# Altium footprint library PCB_Passive.PcbLib: 22 footprints (part 1 of 2)
Each footprint in its own frame and in the unit in brackets; x right, y up, seen from the top. Pads: shape width x height; smd on the part's side, far side on the other; paste and mask are expansions set on the pad; w line width, h text height; cw(c..) or ccw(c..) is an arc to the next point about the centre after c.
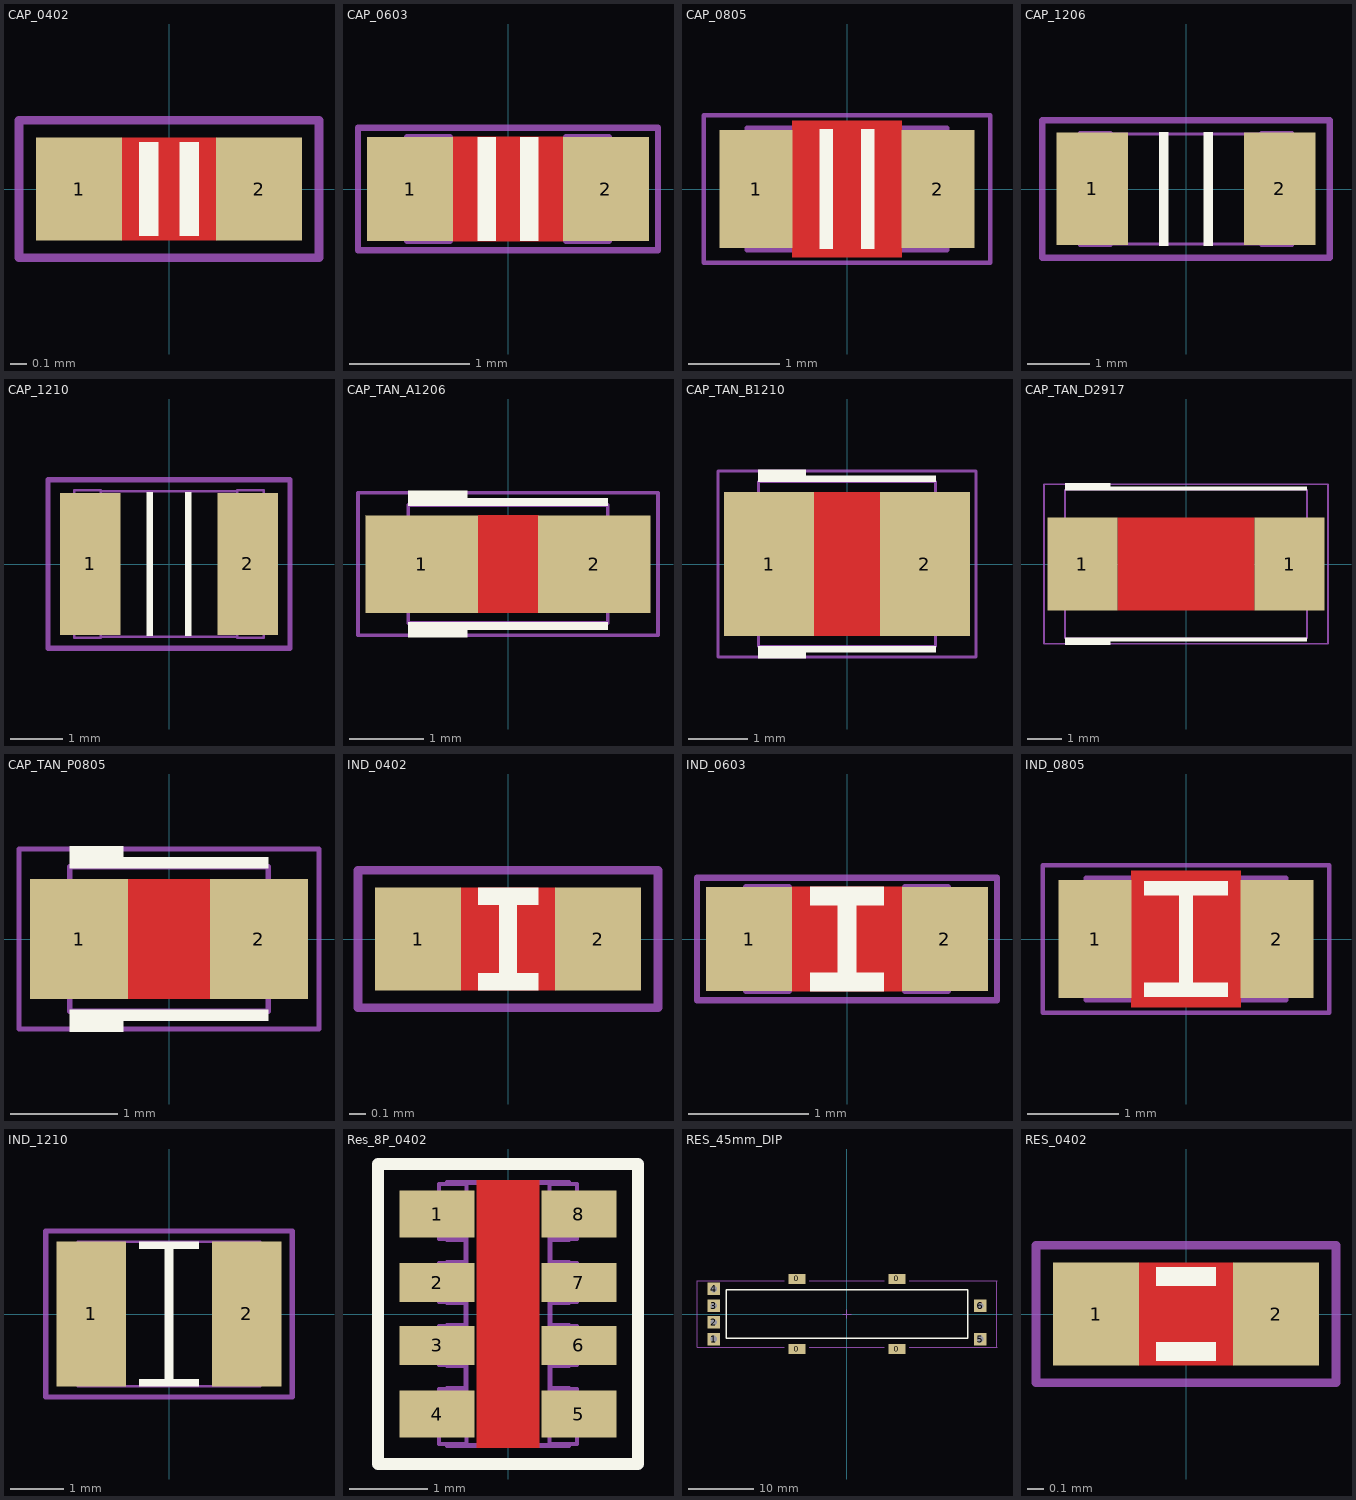
[diagram p0: the footprints below, top view; thin cyan lines are the x and y axes]

## CAP_0402 [mil]
height 21.65
pads (2):
  rect 20x24 smd: 1(-21,0) 2(21,0)
Top Layer:
  pour cut-out: -11,12 11,12 11,-12 -11,-12
Top Overlay:
  rectangle: 2.5,-11 7,11
  rectangle: -7,-11 -2.5,11
Mechanical 13:
  lines w1: -12.8,-10 12.8,-10 ; -12.8,10 12.8,10.03 ; -20.67,-10.83 -12.8,-10.83 -12.8,10.83 -20.67,10.83 -20.67,-10.83 ; 12.8,-10.83 12.8,10.83 20.67,10.83 20.67,-10.83 12.8,-10.83
Mechanical 14:
  lines w2: -35,-16 35,-16 35,16 -35,16 -35,-16
3D body: height 22.05, standoff 0, extent -19.68,-9.84 19.69,9.85

## CAP_0603 [mil]
height 31.5
pads (2):
  rect 28x34 smd: 1(-32,0) 2(32,0)
Top Layer:
  pour cut-out: -18,17 18,17 18,-17 -18,-17
Top Overlay:
  rectangle: -10,-17 -4,17
  rectangle: 4,-17 10,17
Mechanical 13:
  lines w1.97: -33,-17 -33,17 -19,17 -19,-17 -33,-17 ; 19.01,-17 33.01,-17 33.01,17 19.01,17 19.01,-17
  lines w2: -19,-15 19,-15 ; -18.99,15 19.01,15
Mechanical 14:
  lines w2: -49,-20 -49,20 49,20 49,-20 -49,-20
3D body: height 36.22, standoff 0, extent -31.49,-15.74 31.5,15.75

## CAP_0805 [mm]
height 1.2
pads (2):
  rect 0.8x1.3 smd: 1(-1,0) 2(1,0)
Top Layer:
  pour cut-out: -0.6,0.75 0.6,0.75 0.6,-0.75 -0.6,-0.75
Top Overlay:
  rectangle: 0.152,-0.66 0.305,0.66
  rectangle: -0.305,-0.66 -0.152,0.66
Mechanical 13:
  lines w0.05: 0.6,-0.674 -0.6,-0.674 ; -0.6,-0.675 -0.6,0.675 -1.1,0.675 -1.1,-0.675 -0.6,-0.675 ; -0.6,-0.674 0.6,-0.674 ; 0.6,-0.675 0.6,0.675 ; 0.6,-0.675 1.1,-0.675 1.1,0.675 0.6,0.675 ; 0.6,0.674 -0.6,0.674 0.6,0.674
Mechanical 14:
  lines w0.051: -1.575,-0.813 1.575,-0.813 1.575,0.813 -1.575,0.813 -1.575,-0.813
3D body: height 1.27, standoff 0, extent -1,-0.6 1,0.6

## CAP_1206 [mm]
height 1.6
pads (2):
  rect 1.15x1.8 smd: 1(-1.5,0) 2(1.5,0)
Top Overlay:
  rectangle: -0.432,-0.914 -0.279,0.914
  rectangle: 0.279,-0.914 0.432,0.914
Mechanical 13:
  lines w0.05: -1.2,-0.88 1.2,-0.88 ; -1.2,0.88 1.2,0.88 ; -1.7,-0.9 -1.2,-0.9 -1.2,0.9 -1.7,0.9 -1.7,-0.9 ; 1.2,-0.9 1.7,-0.9 1.7,0.9 1.2,0.9 1.2,-0.9
Mechanical 14:
  lines w0.1: -2.3,-1.1 -2.3,1.1 2.3,1.1 2.3,-1.1 -2.3,-1.1
3D body: height 1.52, standoff 0, extent -1.6,-0.8 1.6,0.8

## CAP_1210 [mm]
height 2.54
pads (2):
  rect 1.15x2.7 smd: 1(-1.5,0) 2(1.5,0)
Top Overlay:
  rectangle: -0.432,-1.372 -0.305,1.372
  rectangle: 0.305,-1.372 0.432,1.372
Mechanical 13:
  lines w0.05: -1.3,-1.38 1.3,-1.38 ; -1.3,1.38 1.3,1.38 ; -1.8,-1.4 -1.8,1.4 -1.3,1.4 -1.3,-1.4 -1.8,-1.4 ; 1.3,-1.4 1.8,-1.4 1.8,1.4 1.3,1.4 1.3,-1.4
Mechanical 14:
  lines w0.1: -2.3,-1.6 2.3,-1.6 2.3,1.6 -2.3,1.6 -2.3,-1.6
3D body: height 1.9, standoff 0, extent -1.6,-1.25 1.6,1.25

## CAP_TAN_A1206 [mil]
height 70.87
pads (2):
  rect 60x52 smd: 1(-46,0) 2(46,0)
Top Layer:
  pour cut-out: -16,26 16,26 16,-26 -16,-26
Top Overlay:
  region: 53.15,-35 -21.66,-35 -21.66,-39 -53.16,-39 -53.16,-31 53.15,-31
  region: 53.15,31 -53.16,31 -53.16,39 -21.66,39 -21.66,35 53.15,35
Mechanical 13:
  lines w2: -63,-23.63 -63,23.62 -21.66,23.62 -21.66,-23.63 -63,-23.63 ; -53.16,-31.5 53.15,-31.5 53.15,31.5 -53.16,31.5 -53.16,-31.5 ; 21.65,-23.62 21.65,23.62 62.99,23.62 62.99,-23.62 21.65,-23.62
Mechanical 14:
  lines w2: -80,-38 -80,38 80,38 80,-38 -80,-38
3D body: height 70.87, standoff 0, extent -62.99,-31.49 63,31.5

## CAP_TAN_B1210 [mil]
height 82.68
pads (2):
  rect 60x96 smd: 1(-52,0) 2(52,0)
Top Layer:
  pour cut-out: -22,48 22,48 22,-48 -22,-48
Top Overlay:
  region: 59.05,55 -59.06,55 -59.06,63 -27.55,63 -27.55,59 59.05,59
  region: 59.05,-59 -27.55,-59 -27.55,-63 -59.06,-63 -59.06,-55 59.05,-55
Mechanical 13:
  lines w2: -68.89,-43.3 -27.55,-43.3 -27.55,43.31 -68.89,43.31 -68.89,-43.3 ; -59.06,-55.11 -59.06,55.12 59.05,55.12 59.05,-55.11 -59.06,-55.11 ; 27.56,-43.31 27.56,43.31 68.9,43.31 68.9,-43.31 27.56,-43.31
Mechanical 14:
  lines w2: -86,-62 86,-62 86,62 -86,62 -86,-62
3D body: height 82.68, standoff 0, extent -68.89,-55.11 68.91,55.13

## CAP_TAN_D2917 [mil]
height 122.05
pads (2):
  rect 80x106 smd: 1(-118,0) 1(118,0)
Top Layer:
  pour cut-out: -78,53 78,53 78,-53 -78,-53
Top Overlay:
  region: 137.8,84 -137.8,84 -137.8,92 -86.61,92 -86.61,88 137.8,88
  region: 137.8,-88 -86.61,-88 -86.61,-92 -137.8,-92 -137.8,-84 137.8,-84
Mechanical 13:
  lines w2: -143.7,-47.24 -86.61,-47.24 -86.61,47.24 -143.7,47.24 -143.7,-47.24 ; -137.8,-84.65 -137.8,84.65 137.8,84.65 137.8,-84.65 -137.8,-84.65 ; 86.61,-47.24 86.61,47.24 143.7,47.24 143.7,-47.24 86.61,-47.24
Mechanical 14:
  lines w2: -162,-91 -162,91 162,91 162,-91 -162,-91
3D body: height 122.05, standoff 0, extent -149.6,-77.75 149.61,77.76

## CAP_TAN_P0805 [mil]
height 59.06
pads (2):
  rect 36x44 smd: 1(-33,0) 2(33,0)
Top Layer:
  pour cut-out: -15,22 15,22 15,-22 -15,-22
Top Overlay:
  region: 36.42,26 -36.42,26 -36.42,34 -16.73,34 -16.73,30 36.42,30
  region: 36.42,-30 -16.73,-30 -16.73,-34 -36.42,-34 -36.42,-26 36.42,-26
Mechanical 13:
  lines w2: -40.35,-19.68 -16.73,-19.68 -16.73,19.68 -40.35,19.68 -40.35,-19.68 ; -36.42,-26.57 -36.42,26.57 36.42,26.57 36.42,-26.57 -36.42,-26.57 ; 16.73,-19.68 40.35,-19.68 40.35,19.68 16.73,19.68 16.73,-19.68
Mechanical 14:
  lines w2: -55,-33 55,-33 55,33 -55,33 -55,-33
3D body: height 59.06, standoff 0, extent -40.35,-26.57 40.36,26.58

## IND_0402 [mil]
height 21.65
pads (2):
  rect 20x24 smd: 1(-21,0) 2(21,0)
Top Layer:
  pour cut-out: -11,12 11,12 11,-12 -11,-12
Top Overlay:
  region: -7,-12 -7,-8 -2,-8 -2,8 -7,8 -7,12 7,12 7,8 2,8 2,-8 7,-8 7,-12
Mechanical 13:
  lines w1: -12.8,-10 12.8,-10 ; -12.8,10 12.8,10.03 ; -20.67,-10.83 -20.67,10.83 -12.8,10.83 -12.8,-10.83 -20.67,-10.83 ; 12.8,-10.83 20.67,-10.83 20.67,10.83 12.8,10.83 12.8,-10.83
Mechanical 14:
  lines w2: -35,-16 -35,16 35,16 35,-16 -35,-16
3D body: height 19.68, standoff 0, extent -19.68,-12 19.69,11.62

## IND_0603 [mil]
height 31.5
pads (2):
  rect 28x34 smd: 1(-32,0) 2(32,0)
Top Layer:
  pour cut-out: -18,17 18,17 18,-17 -18,-17
Top Overlay:
  region: -12,11 -12,17 12,17 12,11 3,11 3,-11 12,-11 12,-17 -12,-17 -12,-11 -3,-11 -3,11
Mechanical 13:
  lines w1.97: -33,-17 -33,17 -19,17 -19,-17 -33,-17 ; 19.01,-17 33.01,-17 33.01,17 19.01,17 19.01,-17
  lines w2: -19,-15 19,-15 ; -18.99,15 19.01,15
Mechanical 14:
  lines w2: -49,-20 -49,20 49,20 49,-20 -49,-20
3D body: height 37.4, standoff 0, extent -31.49,-15.74 31.5,15.75

## IND_0805 [mm]
height 0.9
pads (2):
  rect 0.8x1.3 smd: 1(-1,0) 2(1,0)
Top Layer:
  pour cut-out: -0.6,0.75 0.6,0.75 0.6,-0.75 -0.6,-0.75
Top Overlay:
  region: -0.457,0.483 -0.457,0.635 0.457,0.635 0.457,0.483 0.076,0.483 0.076,-0.483 0.457,-0.483 0.457,-0.635 -0.457,-0.635 -0.457,-0.483 -0.076,-0.483 -0.076,0.483
Mechanical 13:
  lines w0.05: 0.6,-0.674 -0.6,-0.674 ; -0.6,-0.674 0.6,-0.674 ; -0.6,-0.675 -1.1,-0.675 -1.1,0.675 -0.6,0.675 -0.6,-0.675 ; 0.6,-0.675 1.1,-0.675 1.1,0.675 0.6,0.675 ; 0.6,-0.675 0.6,0.675 ; 0.6,0.674 -0.6,0.674 0.6,0.674
Mechanical 14:
  lines w0.051: -1.575,-0.813 -1.575,0.813 1.575,0.813 1.575,-0.813 -1.575,-0.813
3D body: height 1.05, standoff 0, extent -1,-0.6 1,0.6

## IND_1210 [mm]
height 2.7
pads (2):
  rect 1.3x2.7 smd: 1(-1.45,0) 2(1.45,0)
Top Overlay:
  region: -0.559,1.219 -0.559,1.346 0.559,1.346 0.559,1.219 0.076,1.219 0.076,-1.219 0.559,-1.219 0.559,-1.346 -0.559,-1.346 -0.559,-1.219 -0.076,-1.219 -0.076,1.219
Mechanical 13:
  lines w0.05: -1.7,-1.35 -1.7,1.35 -1.1,1.35 -1.1,-1.35 -1.7,-1.35 ; -1.1,-1.349 1.1,-1.349 -1.1,-1.349 ; -1.1,1.349 1.1,1.349 -1.1,1.349 ; 1.1,-1.35 1.7,-1.35 1.7,1.35 1.1,1.35 1.1,-1.35
Mechanical 14:
  lines w0.1: -2.3,-1.55 2.3,-1.55 2.3,1.55 -2.3,1.55 -2.3,-1.55
3D body: height 1.35, standoff 0, extent -1.6,-1.25 1.6,1.25

## Res_8P_0402 [mm]
pads (8):
  rect 0.95x0.6 smd: 1(-0.9,1.27) 4(-0.9,-1.27) 5(0.9,-1.27) 8(0.9,1.27)
  rect 0.95x0.5 smd: 2(-0.9,0.4) 3(-0.9,-0.4) 6(0.9,-0.4) 7(0.9,0.4)
Top Layer:
  pour cut-out: -0.4,1.7 0.4,1.7 0.4,-1.7 -0.4,-1.7
Top Overlay:
  lines w0.152: -1.651,-1.905 1.651,-1.905 1.651,1.905 -1.651,1.905 -1.651,-1.905
Top Solder:
  region: 1.3,1.2 0.5,1.2 0.5,-1.2 1.3,-1.2
  rectangle: -1.3,-1.2 -0.5,1.2
Mechanical 13:
  lines w0.05: -0.775,-1.65 -0.775,-1.675 0.775,-1.675 0.775,-1.65 ; -0.775,-0.95 -0.775,-0.938 -0.537,-0.938 -0.537,-0.663 -0.775,-0.663 -0.775,-0.65 ; -0.775,-0.15 -0.775,-0.138 -0.537,-0.138 -0.537,0.138 -0.775,0.138 -0.775,0.15 ; -0.775,0.65 -0.775,0.663 -0.537,0.663 -0.537,0.938 -0.775,0.938 -0.775,0.95 ; -0.775,1.65 -0.775,1.675 0.775,1.675 0.775,1.65 ; -0.525,-1.65 -0.875,-1.65 -0.875,-0.95 -0.525,-0.95 ; -0.525,-0.65 -0.875,-0.65 -0.875,-0.15 -0.525,-0.15 ; -0.525,0.15 -0.875,0.15 -0.875,0.65 -0.525,0.65 ; -0.525,0.95 -0.875,0.95 -0.875,1.65 -0.525,1.65 ; 0.525,-1.65 0.875,-1.65 0.875,-0.95 0.525,-0.95 ; 0.525,-0.65 0.875,-0.65 0.875,-0.15 0.525,-0.15 ; 0.525,0.15 0.875,0.15 0.875,0.65 0.525,0.65 ; 0.525,0.95 0.875,0.95 0.875,1.65 0.525,1.65 ; 0.775,-0.95 0.775,-0.938 0.537,-0.938 0.537,-0.663 0.775,-0.663 0.775,-0.65 ; 0.775,-0.15 0.775,-0.138 0.537,-0.138 0.537,0.138 0.775,0.138 0.775,0.15 ; 0.775,0.65 0.775,0.663 0.537,0.663 0.537,0.938 0.775,0.938 0.775,0.95 ; -0.525,-1.663 -0.525,1.663 0.525,1.663 0.525,-1.663 -0.525,-1.663
3D body: height 0.7, standoff 0, extent -0.875,-1.675 0.875,1.675

## RES_45mm_DIP [mil]
pads (10):
  rect 100x60 smd: 0(-300,-210) 0(-300,210) 0(300,-210) 0(300,210)
  rect 75x75 hole 39.37: 1(-800,-150) 2(-800,-50) 3(-800,50) 4(-800,150) 5(800,-150) 6(800,50)
Top Overlay:
  lines w10: -725,-145 -725,145 725,145 725,-145 -725,-145
Mechanical 13:
  lines w2: -25,0 0,0 ; 0,-25 0,0 ; 0,25 0,0 ; 25,0 0,0
  lines w4: -375,-200 -900,-200 -900,200 -375,200 ; -225,-200 225,-200 ; -225,200 225,200 ; 375,-200 900,-200 900,200 375,200

## RES_0402 [mil]
height 15.75
pads (2):
  rect 20x24 smd: 1(-21,0) 2(21,0)
Top Layer:
  pour cut-out: -11,12 11,12 11,-12 -11,-12
Top Overlay:
  region: 7,6.5 7,11 -7,11 -7,6.5
  region: 7,-11 7,-6.5 -7,-6.5 -7,-11
Mechanical 13:
  lines w1: -12.8,-10 12.8,-10 ; -12.8,10 12.8,10.03 ; -20.67,-10.83 -12.8,-10.83 -12.8,10.83 -20.67,10.83 -20.67,-10.83 ; 12.8,-10.83 12.8,10.83 20.67,10.83 20.67,-10.83 12.8,-10.83
Mechanical 14:
  lines w2: -35,-16 35,-16 35,16 -35,16 -35,-16
3D body: height 15.75, standoff 0, extent -19.68,-9.84 19.7,9.85